# Altium footprint library SMC.PcbLib: 3 footprints
Each footprint in its own frame and in the unit in brackets; x right, y up, seen from the top. Pads: shape width x height; smd on the part's side, far side on the other; paste and mask are expansions set on the pad; w line width, h text height; cw(c..) or ccw(c..) is an arc to the next point about the centre after c.
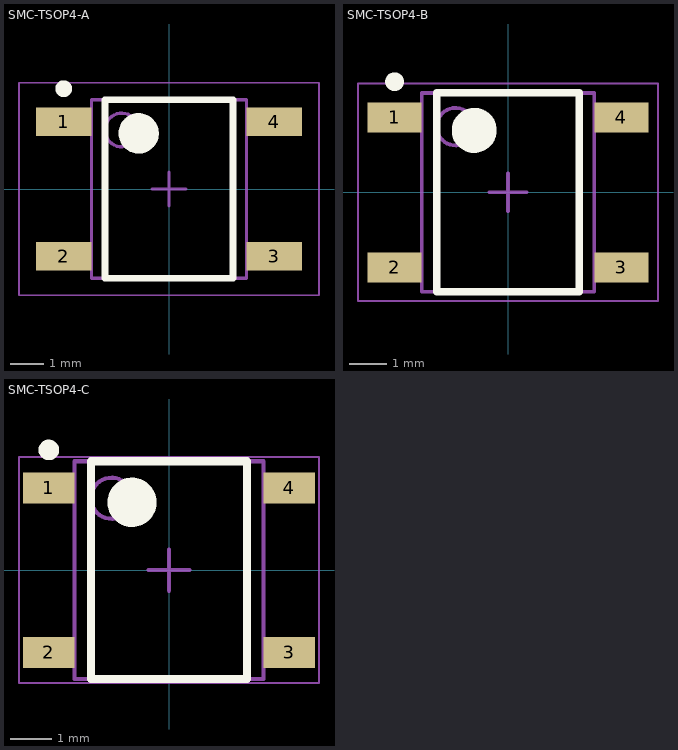
[diagram p0: the footprints below, top view; thin cyan lines are the x and y axes]

## SMC-TSOP4-A [mm] "TSOP, 4-Leads, Body 5.05x4.40mm, Pitch 4.00mm, IPC Low Density"
height 1.5
pads (4):
  rect 1.65x0.85 smd: 1(-3.125,2) 2(-3.125,-2) 3(3.125,-2) 4(3.125,2)
Top Overlay:
  circle w0.6: c-0.9,1.65 r0.3
  circle w0.25: c-3.125,2.975 r0.125
  lines w0.2: -1.9,-2.65 1.9,-2.65 1.9,2.65 -1.9,2.65 -1.9,-2.65
Mechanical 13:
  circle w0.1: c-1.4,1.75 r0.5
  lines w0.1: -2.3,-2.65 2.3,-2.65 2.3,2.65 -2.3,2.65 -2.3,-2.65
Mechanical 15:
  lines w0.05: -4.45,-3.15 4.45,-3.15 4.45,3.15 -4.45,3.15 -4.45,-3.15
  lines w0.1: -0.5,0 0.5,0 ; 0,-0.5 0,0.5
3D body "TSOP400P640X150-4N.step": height 1.5, standoff 0, extent -3.1,-2.65 3.1,2.65

## SMC-TSOP4-B [mm] "TSOP, 4-Leads, Body 5.05x4.40mm, Pitch 4.00mm, IPC Medium Density"
height 1.5
pads (4):
  rect 1.45x0.8 smd: 1(-3.025,2) 2(-3.025,-2) 3(3.025,-2) 4(3.025,2)
Top Overlay:
  circle w0.25: c-3.025,2.95 r0.125
  circle w0.6: c-0.9,1.65 r0.3
  lines w0.2: -1.9,-2.65 -1.9,2.65 1.9,2.65 1.9,-2.65 -1.9,-2.65
Mechanical 13:
  circle w0.1: c-1.4,1.75 r0.5
  lines w0.1: -2.3,-2.65 -2.3,2.65 2.3,2.65 2.3,-2.65 -2.3,-2.65
Mechanical 15:
  lines w0.05: -4,-2.9 -4,2.9 4,2.9 4,-2.9 -4,-2.9
  lines w0.1: -0.5,0 0.5,0 ; 0,-0.5 0,0.5
3D body "TSOP400P640X150-4N.step": height 1.5, standoff 0, extent -3.1,-2.65 3.1,2.65

## SMC-TSOP4-C [mm] "TSOP, 4-Leads, Body 5.05x4.40mm, Pitch 4.00mm, IPC High Density"
height 1.5
pads (4):
  rect 1.25x0.75 smd: 1(-2.925,2) 2(-2.925,-2) 3(2.925,-2) 4(2.925,2)
Top Overlay:
  circle w0.25: c-2.925,2.925 r0.125
  circle w0.6: c-0.9,1.65 r0.3
  lines w0.2: -1.9,-2.65 -1.9,2.65 1.9,2.65 1.9,-2.65 -1.9,-2.65
Mechanical 13:
  circle w0.1: c-1.4,1.75 r0.5
  lines w0.1: -2.3,-2.65 -2.3,2.65 2.3,2.65 2.3,-2.65 -2.3,-2.65
Mechanical 15:
  lines w0.05: -3.65,-2.75 -3.65,2.75 3.65,2.75 3.65,-2.75 -3.65,-2.75
  lines w0.1: -0.5,0 0.5,0 ; 0,-0.5 0,0.5
3D body "TSOP400P640X150-4N.step": height 1.5, standoff 0, extent -3.1,-2.65 3.1,2.65